# Altium integrated library LT Power Mgt Switching Regulator.IntLib: 1 symbol
Pins are listed as number, name and electrical type; pins without a type are passive.

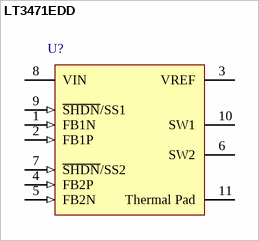
[diagram p0: symbol LT3471EDD]

## LT3471EDD
designator U?
Dual 1.3A, 1.2MHz Boost/Inverter; Published: 30-May-2008; LatestRevisionDate: 4-Feb-2010; LatestRevisionNote: Thermal pad adjusted to match vendors recommendation, VIN type changed to power.; DatasheetVersion: Aug-2007; PackageVersion: Jul-2005; PackageReference: DD10; Publisher: Altium Limited; PackageDescription: 10-Pin Plastic DFN, 3 x 3 x 0.8 mm Body, 0.5 mm Pitch, No Pullback, Exposed Pad (DD10); Code_JEDEC: MO-229-WEED-2; ComponentLink1Description: Manufacturer Link; ComponentLink1URL: http://www.linear.com/; ComponentLink2Description: Datasheet; ComponentLink2URL: http://www.linear.com/pc/downloadDocument.do?navId=H0,C1,C1003,C1042,C1035,P7546,D5130
footprint DD10_N (SON, 10-Leads, Body 3x3 mm, Pitch 0.5mm, IPC Medium Density)
footprint DD10_L (SON, 10-Leads, Body 3x3 mm, Pitch 0.5mm, IPC High Density)
footprint DD10_M (SON, 10-Leads, Body 3x3 mm, Pitch 0.5mm, IPC Low Density)
pins: 1 FB1N (in), 2 FB1P (in), 3 VREF (power), 4 FB2P (in), 5 FB2N (in), 6 SW2 (oc), 7 ~{SHDN}/SS2 (in), 8 VIN (power), 9 ~{SHDN}/SS1 (in), 10 SW1 (oc), 11 Thermal Pad (power)